# Altium schematic symbol library NodeFPGA.SCHLIB: 19 symbols
Pins are listed as number, name and electrical type; pins without a type are passive.

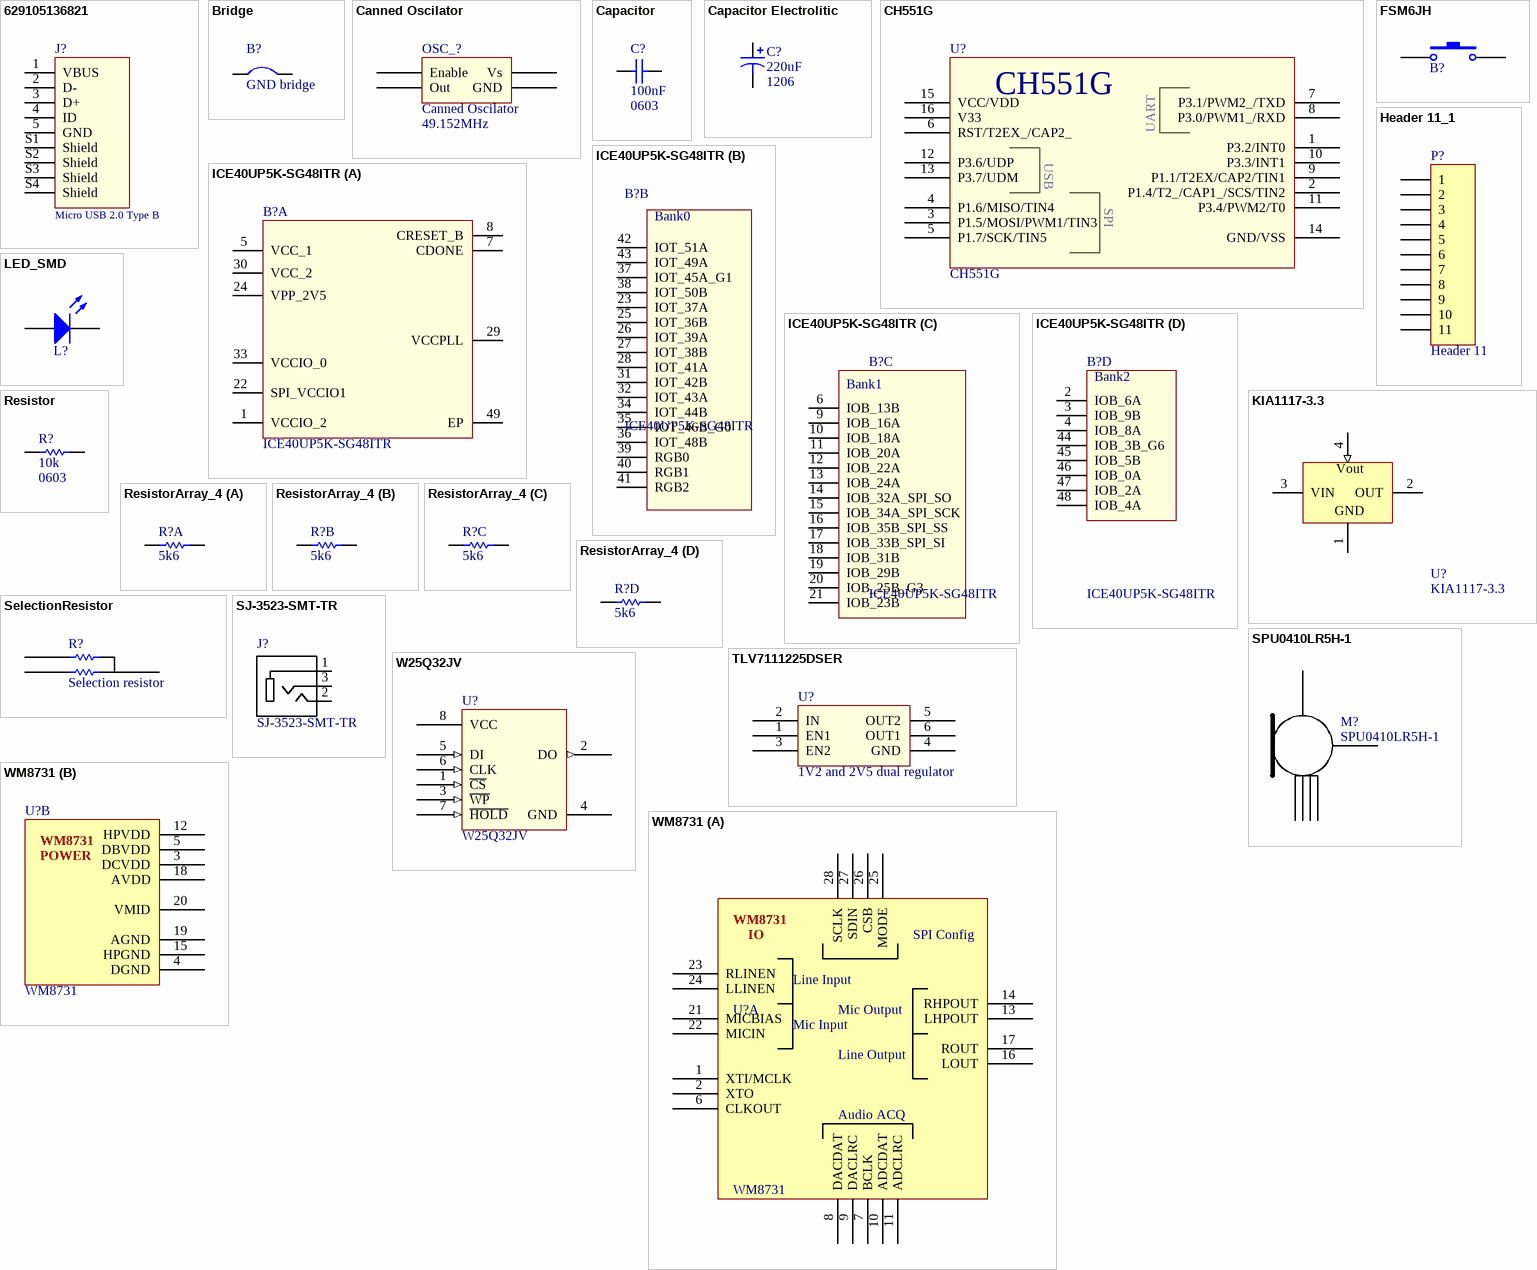
[diagram p0: symbols 629105136821 to WM8731]

## 629105136821
designator J?, comment Micro USB 2.0 Type B
Micro USB 2.0 Type B Horizontal SMT 5 Contacts WR-COM; Part Number: 629105136821; Rated Current: 1 A; Gender: Female; vendor: LCSC; vendorID: C21377; ComponentLink1Description: Manufacturer; ComponentLink1URL: http://www.we-online.de; ComponentLink2Description: Datasheet; ComponentLink2URL: http://katalog.we-online.de/em/datasheet/629105136821.pdf; Published Date: May 2018; Publisher: Wurth Elektronik; Orientation: Horizontal; Interface Type: Micro USB 2.0 Type B; Operating Temperature: -40 to 85 degC; Mounting Technology: SMT; Packaging: Tape and Reel; price: 0.05
footprint 629105136821 (Micro USB 2.0 SMT Type B Horizontal 5 Contacts)
pins: 1 VBUS, 2 D-, 3 D+, 4 ID, 5 GND, S1 Shield, S2 Shield, S3 Shield, S4 Shield

## Bridge
designator B?, comment GND bridge  (net tie, no BOM)
footprint Bridge (AGND and GND bridge)
pins: 1, 2

## Canned Oscilator
designator OSC_?  value 49.152MHz
Canned Oscilator -LFSPXO019116BULK; ManualRef: 449-LFSPXO019116BULK; vendor: Mouser; vendorID: 774-CB3LV-3C-49M1; price: 1.18
footprint Canned Oscilator
pins: 1 Enable, 2 GND, 3 Out, 4 Vs

## Capacitor
designator C?, comment value 100nF  Package: 0603  (hidden comment: Ceramic capacitor)
Capacitor; Supplier 1: Mouser; Supplier Part Number 1: 80-C1206C104K5R; ManufacturerReference: -
footprint RAD-0.3 (Radial Cap, Thru-Hole; 2 Leads; 0.3 in Pin Spacing)
simulation model CAP (Capacitor)
signal-integrity model Cap
footprint 0805
footprint 0603 CAP (Chip Capacitor, Body 1.6x0.8mm, IPC High Density)
pins: 1, 2

## Capacitor Electrolitic
designator C?  value 220uF  Package: 1206  (hidden comment: Capacitor Electrolitic)
Voltage Rating: 10V; vendor: Mouser; vendorID: 80-T491A224M035; Author: Jaime Jiménez Ortega; Date: 21/05/2009; ManufacturerReference: -; price: 0.38
footprint CAPAE-G 10mmx10mm
footprint CAPAE-G B CASE
footprint 0805 + TH
footprint CAPCP3216X16N (Chip Capacitor, 2-Leads, Body 3.20x1.60mm, IPC Medium Density)
pins: 1, 2

## CH551G
designator U?
Microcontroller wUSB support; vendor: LCSC; vendorID: C108958; ComponentLink1Description: LCSC; ComponentLink1URL: https://lcsc.com/product-detail/USB_CH551G_C108958.html; package: SOP-16; price: 0.3; ManufacturerRefenrece: CH551G
footprint CH551 (MCU)
pins: 1 P3.2/INT0, 2 P1.4/T2_/CAP1_/SCS/TIN2, 3 P1.5/MOSI/PWM1/TIN3, 4 P1.6/MISO/TIN4, 5 P1.7/SCK/TIN5, 6 RST/T2EX_/CAP2_, 7 P3.1/PWM2_/TXD, 8 P3.0/PWM1_/RXD, 9 P1.1/T2EX/CAP2/TIN1, 10 P3.3/INT1, 11 P3.4/PWM2/T0, 12 P3.6/UDP, 13 P3.7/UDM, 14 GND/VSS, 15 VCC/VDD, 16 V33
text: UART; USB; SPI

## FSM6JH
designator B?  (value not drawn)
Button THT Switch; vendor: Mouser; vendorID: 611-PTS636SL43SMTRLF; Supplier 1: Mouser; Supplier Part Number 1: 506-FSM6JH; price: 0.096
footprint SW-Button
footprint SMD_PUSHBUTTON_3x6x2mm5
pins: 1, 2

## Header 11_1
designator P?, comment Header 11
Header, 11-Pin; vendor: LCSC; vendorID: A2541WV-11P; LatestRevisionDate: 17-Jul-2002; LatestRevisionNote: Re-released for DXP Platform.; Publisher: Altium Limited; price: 0.18
footprint HDR1X11 (Connector; Header; 11 Position)
signal-integrity model Connector
pins: 1, 2, 3, 4, 5, 6, 7, 8, 9, 10, 11

## ICE40UP5K-SG48ITR
designator B?
FPGA - Field Programmable Gate Array iCE40-UltraPlus, 5280 LUTs, 1.2V; Manufacturer_Name: Lattice; Geometry.Height: 1mm; vendor: Mouser; vendorID: 842-ICE40UP5K-SG48I; Mouser Part Number: 842-40UP5KSG48ITR; Manufacturer_Part_Number: ICE40UP5K-SG48ITR; Datasheet Link: https://componentsearchengine.com/Datasheets/1/ICE40UP5K-SG48ITR.pdf; price: 5.29
footprint QFN50P700X700X100-49N-D
part A pins: 1 VCCIO_2, 5 VCC_1, 7 CDONE, 8 CRESET_B, 22 SPI_VCCIO1, 24 VPP_2V5, 29 VCCPLL, 30 VCC_2, 33 VCCIO_0, 49 EP
part B pins: 23 IOT_37A, 25 IOT_36B, 26 IOT_39A, 27 IOT_38B, 28 IOT_41A, 31 IOT_42B, 32 IOT_43A, 34 IOT_44B, 35 IOT_46B_G0, 36 IOT_48B, 37 IOT_45A_G1, 38 IOT_50B, 39 RGB0, 40 RGB1, 41 RGB2, 42 IOT_51A, 43 IOT_49A
part C pins: 6 IOB_13B, 9 IOB_16A, 10 IOB_18A, 11 IOB_20A, 12 IOB_22A, 13 IOB_24A, 14 IOB_32A_SPI_SO, 15 IOB_34A_SPI_SCK, 16 IOB_35B_SPI_SS, 17 IOB_33B_SPI_SI, 18 IOB_31B, 19 IOB_29B, 20 IOB_25B_G3, 21 IOB_23B
part D pins: 2 IOB_6A, 3 IOB_9B, 4 IOB_8A, 44 IOB_3B_G6, 45 IOB_5B, 46 IOB_0A, 47 IOB_2A, 48 IOB_4A
part B text: Bank0
part C text: Bank1
part D text: Bank2

## KIA1117-3.3
designator U?
5V to 3.3V 800mA Low-Dropout Linear Regulator; vendor: LCSC; vendorID: C116069; ManufacturerReference: KIA1117-3.3; price: 0.05; package: SOT-223
footprint SOT-223
pins: 1 GND (power), 2 OUT, 3 VIN (power), 4 Vout (in)

## LED_SMD
designator L?  (value not drawn)
LED SMD; vendor: Mouser; vendorID: 743-IN-S85AT5B; Supplier 1: Mouser; Supplier Part Number 1: 630-HSMC-C170; price: 0.087
footprint 0805
pins: 1 A, 2 K

## Resistor
designator R?  value 10k  Package: 0603  (hidden comment: Resistor)
Supplier 1: Farnell; Supplier Part Number 1: 2358436; ManufacturerReference: -
footprint AXIAL-0.3 (Axial Device, Thru-Hole; 2 Leads; 0.3 in Pin Spacing)
simulation model RESISTOR (Resistor)
signal-integrity model Res
footprint AXIAL-0.4
footprint AXIAL-0.5 (Axial Device, Thru-Hole; 2 Leads; 0.9 in Pin Spacing)
footprint AXIAL-0.6 (Axial Device, Thru-Hole; 2 Leads; 0.6 in Pin Spacing)
footprint AXIAL-0.7 (Axial Device, Thru-Hole; 2 Leads; 0.7 in Pin Spacing)
footprint AXIAL-0.8 (Axial Device, Thru-Hole; 2 Leads; 0.8 in Pin Spacing)
footprint AXIAL-0.9 (Axial Device, Thru-Hole; 2 Leads; 0.9 in Pin Spacing)
footprint AXIAL-1.0 (Axial Device, Thru-Hole; 2 Leads; 1.0 in Pin Spacing)
footprint 0805
footprint 0805_L (Chip Resistor, Body 2.0x1.2mm, IPC High Density)
footprint 0805_N (Chip Resistor, Body 2.0x1.2mm, IPC Medium Density)
footprint Resistencia 0603 (Chip Resistor, 2-Leads, Body 2,30x0,80mm, IPC Medium Density)
pins: 1, 2

## ResistorArray_4
designator R?, comment value 5k6  (hidden comment: Resistor array)
4 resistors in smd array configuration; ManufacturerReference: TC164-FR-075K6L; vendor: Mouser; Package: -; price: price; vendorID: *
part A pins: 1, 8
part B pins: 2, 7
part C pins: 3, 6
part D pins: 4, 5

## SelectionResistor
designator R?, comment Selection resistor
pins: 1, 2, 3

## SJ-3523-SMT-TR
designator J?
vendor: Mouser; vendorID: 490-SJ-3523-SMT-TR; ManufacturerReference: SJ-3523-SMT-TR; Package: -; price: 0.777
footprint CUI_SJ-3523-SMT-TR (mini jack)
pins: 1, 2, 3

## SPU0410LR5H-1
designator M?
MEMS Microphone; ManufacturerReference: SPU0410LR5H-QB; vendor: Mouser; vendorID: 721-SPU0410LR5H-QB; price: 0.646
footprint SPU0410LR5H-1 (mems microphone)
pins: 1, 2, 3, 4, 5, 6

## TLV7111225DSER
designator U?, comment 1V2 and 2V5 dual regulator
ManufacturerReference: TLV7111; vendor: Mouser; vendorID: 595-TLV7111225DSER; Supplier 1: Arrow; Supplier Part Number 1: TLV7111225DSER**MULT1; Package: WSON 6; price: 0.489
footprint DSE 6 (DSE PACKAGE)
pins: 1 EN1, 2 IN, 3 EN2, 4 GND, 5 OUT2, 6 OUT1

## W25Q32JV
designator U?
32M-BIT SERIAL FLASH MEMORY WITH DUAL AND QUAD SPI; vendorID: 454-W25Q32JVSSIQ; vendor: Mouser; ManufacturerReference: W25Q32J; Package: SOIC-8; price: 0.603
footprint W25Q32J
pins: 1 ~{CS} (in), 2 DO (out), 3 ~{WP} (in), 4 GND (power), 5 DI (in), 6 CLK (in), 7 ~{HOLD} (in), 8 VCC (power)

## WM8731
designator U?
Portable Internet Audio CODEC with Headphone Driver  and Programmable Sample Rates; vendorID: 238-WM8731CLSEFL; vendor: Mouser; ManufacturerReference: WM8731; Package: PQFN 28 Leads; price: 3.18
footprint WM8731 (PQFN, 28-Leads, Body 5.00x5.00mm, Pitch 0.50mm, Thermal Pad 3.30x3.30mm, IPC Medium Density)
part A pins: 1 XTI/MCLK, 2 XTO, 6 CLKOUT, 7 BCLK, 8 DACDAT, 9 DACLRC, 10 ADCDAT, 11 ADCLRC, 13 LHPOUT, 14 RHPOUT, 16 LOUT, 17 ROUT, 21 MICBIAS, 22 MICIN, 23 RLINEN, 24 LLINEN, 25 MODE, 26 CSB, 27 SDIN, 28 SCLK
part B pins: 3 DCVDD, 4 DGND, 5 DBVDD, 12 HPVDD, 15 HPGND, 18 AVDD, 19 AGND, 20 VMID
part A text: IO; SPI Config; Line Input; Mic Output; Mic Input; Line Output; Audio ACQ
part B text: POWER